# Altium footprint library MFG240160-3-E.PcbLib: 1 footprints
Each footprint in its own frame and in the unit in brackets; x right, y up, seen from the top. Pads: shape width x height; smd on the part's side, far side on the other; paste and mask are expansions set on the pad; w line width, h text height; cw(c..) or ccw(c..) is an arc to the next point about the centre after c.
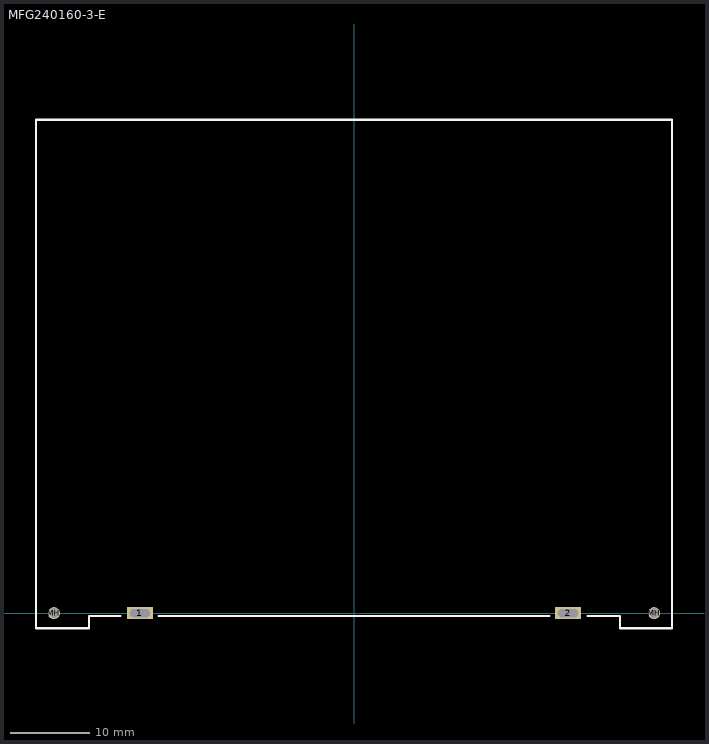
[diagram p0: the footprint, top view; thin cyan lines are the x and y axes]

## MFG240160-3-E [mil]
pads (4):
  rect 130x60 hole 40 slot 100 at 0 deg: 1(-1062.99,0) 2(1062.99,0)
  round 60 hole 50 unplated: MH(-1490.16,0) MH(1490.16,0)
Top Overlay:
  lines w10: -1160,-15 -1315,-15 -1315,-75 -1580,-75 -1580,2450 1580,2450 1580,-75 1320,-75 1320,-15 1160,-15 ; -970,-15 970,-15
3D body: height 268, standoff -30, extent -1570,-62 1570,2438